# Altium schematic symbol library Espressif.SchLib: 3 symbols
Pins are listed as number, name and electrical type; pins without a type are passive.

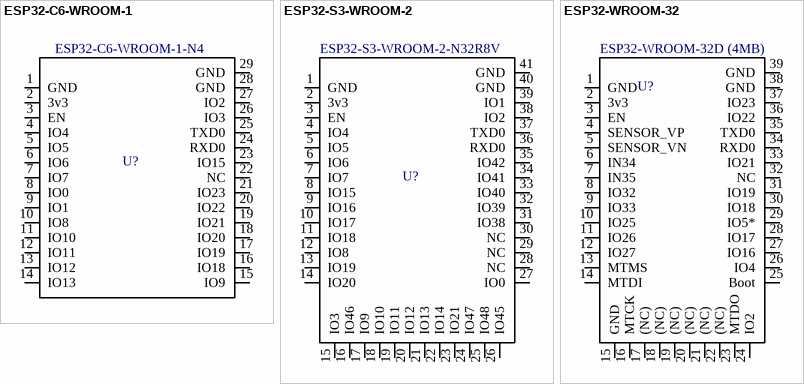
[diagram p0: symbols ESP32-C6-WROOM-1 to ESP32-WROOM-32]

## ESP32-C6-WROOM-1
designator U?, comment Part Number: ESP32-C6-WROOM-1-N4  (hidden comment: ESP32-C6-WROOM-1 SoC)
Manufacturer: Espressif; Price 1: 2.85; Price 100: 2.85; Price 1000: 2.85
footprint ESP32-C6-WROOM-1 (ESP32-C6-WROOM-1 SoC)
pins: 1 GND, 2 3v3, 3 EN, 4 IO4, 5 IO5, 6 IO6, 7 IO7, 8 IO0, 9 IO1, 10 IO8, 11 IO10, 12 IO11, 13 IO12, 14 IO13, 15 IO9, 16 IO18, 17 IO19, 18 IO20, 19 IO21, 20 IO22, 21 IO23, 22 NC, 23 IO15, 24 RXD0, 25 TXD0, 26 IO3, 27 IO2, 28 GND, 29 GND

## ESP32-S3-WROOM-2
designator U?, comment Part Number: ESP32-S3-WROOM-2-N32R8V  (hidden comment: ESP32-S3-WROOM-2 SoC)
Manufacturer: Espressif; Price 1: 6.68; Price 100: 6.68; Price 1000: 6.68
footprint ESP32-S3-WROOM-1 (ESP32-S3-WROOM-1 SoC)
footprint ESP32-S3-WROOM-2 (ESP32-S3-WROOM-2 SoC)
footprint ESP32-S3-WROOM-CUSTOM-2-1 (ESP32-S3-WROOM SoC)
pins: 1 GND, 2 3v3, 3 EN, 4 IO4, 5 IO5, 6 IO6, 7 IO7, 8 IO15, 9 IO16, 10 IO17, 11 IO18, 12 IO8, 13 IO19, 14 IO20, 15 IO3, 16 IO46, 17 IO9, 18 IO10, 19 IO11, 20 IO12, 21 IO13, 22 IO14, 23 IO21, 24 IO47, 25 IO48, 26 IO45, 27 IO0, 28 NC, 29 NC, 30 NC, 31 IO38, 32 IO39, 33 IO40, 34 IO41, 35 IO42, 36 RXD0, 37 TXD0, 38 IO2, 39 IO1, 40 GND, 41 GND

## ESP32-WROOM-32
designator U?, comment Part Number: ESP32-WROOM-32D (4MB)  (hidden comment: ESP32-WROOM-32, Wifi-BT module)
Manufacturer: Espressif Systems; Price 1: 3.42; Price 100: 3.42; Price 1000: 3.42
footprint ESP32-WROOM-32D (ESP32-WROOM-32 with PCB antenna)
pins: 1 GND, 2 3v3, 3 EN, 4 SENSOR_VP, 5 SENSOR_VN, 6 IN34, 7 IN35, 8 IO32, 9 IO33, 10 IO25, 11 IO26, 12 IO27, 13 MTMS, 14 MTDI, 15 GND, 16 MTCK, 17 (NC), 18 (NC), 19 (NC), 20 (NC), 21 (NC), 22 (NC), 23 MTDO, 24 IO2, 25 Boot, 26 IO4, 27 IO16, 28 IO17, 29 IO5*, 30 IO18, 31 IO19, 32 NC, 33 IO21, 34 RXD0, 35 TXD0, 36 IO22, 37 IO23, 38 GND, 39 GND